# Altium footprint library NEW_PCB_2021-12-20.PcbLib: 1 footprints
Each footprint in its own frame and in the unit in brackets; x right, y up, seen from the top. Pads: shape width x height; smd on the part's side, far side on the other; paste and mask are expansions set on the pad; w line width, h text height; cw(c..) or ccw(c..) is an arc to the next point about the centre after c.
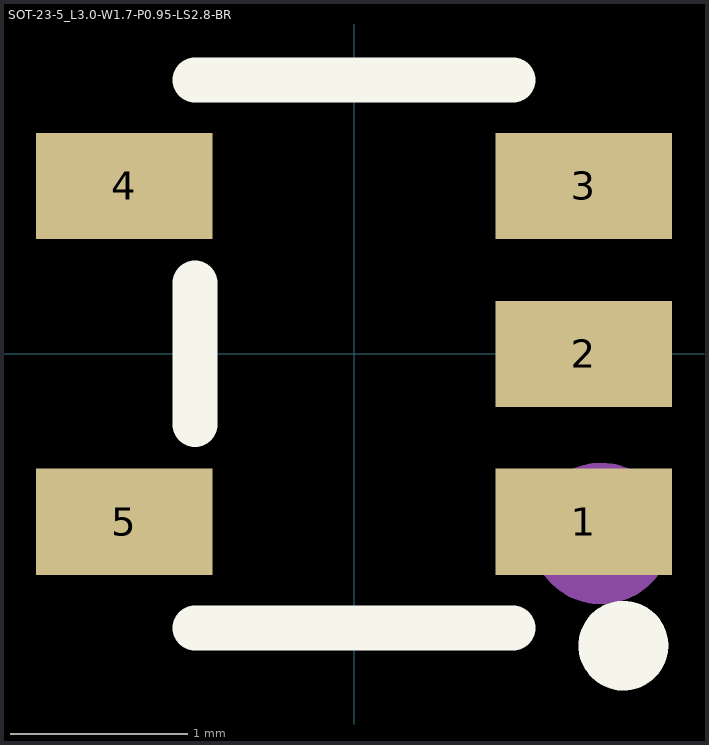
[diagram p0: the footprint, top view; thin cyan lines are the x and y axes]

## SOT-23-5_L3.0-W1.7-P0.95-LS2.8-BR [mm]
pads (5):
  rect 1x0.6 smd: 1(1.3,-0.95) 2(1.3,0) 3(1.3,0.95) 4(-1.3,0.95) 5(-1.3,-0.95)
Top Overlay:
  circle w0.254: c1.524,-1.651 r0.127
  lines w0.254: -0.9,-1.55 0.9,-1.55 ; -0.9,-0.4 -0.9,0.4 ; -0.9,1.55 0.9,1.55
Mechanical 15:
  circle w0.4: c1.397,-1.016 r0.2